# Altium schematic symbol library L 滤波器.SCHLIB: 2 symbols
Pins are listed as number, name and electrical type; pins without a type are passive.

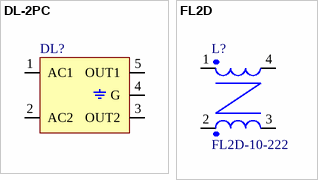
[diagram p0: symbols DL-2PC to FL2D]

## DL-2PC
designator DL?
滤波器-常州监力 250VAC/2A/50Hz
footprint DL-2PC (滤波器-常州监力 250VAC/2A/50Hz)
pins: 1 AC1, 2 AC2, 3 OUT2, 4 G, 5 OUT1

## FL2D
designator L?, comment FL2D-10-222
footprint FL2D-10-222
pins: 1, 2, 3, 4